# EAGLE library part WSL10 (library Wannenstiftleisten)
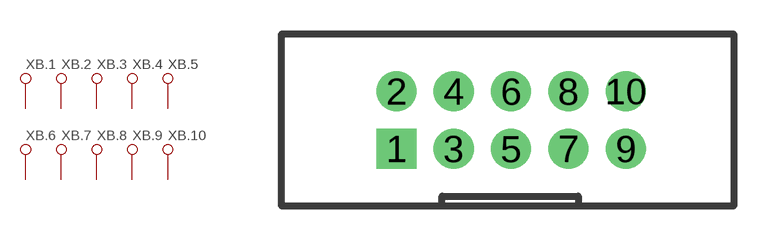
[diagram p2: symbol with the pads of WSL10; footprint WSL10]

Designator prefix XB; gates .1=PIN .2=PIN .3=PIN .4=PIN .5=PIN .6=PIN .7=PIN .8=PIN .9=PIN .10=PIN

## WSL10  [WSL10]
1  .1:.1
2  .2:.1
3  .3:.1
4  .4:.1
5  .5:.1
6  .6:.1
7  .7:.1
8  .8:.1
9  .9:.1
10  .10:.1

## Footprint WSL10 (pad centres in mm)
drill 1 pad 1.778 square: 1 -5.16,-1.27
drill 1 pad 1.778: 2 -5.16,1.27; 3 -2.62,-1.27; 4 -2.62,1.27; 5 -0.08,-1.27; 6 -0.08,1.27; 7 2.46,-1.27; 8 2.46,1.27; 9 5,-1.27; 10 5,1.27